# Altium footprint library 1812.PcbLib: 1 footprints
Each footprint in its own frame and in the unit in brackets; x right, y up, seen from the top. Pads: shape width x height; smd on the part's side, far side on the other; paste and mask are expansions set on the pad; w line width, h text height; cw(c..) or ccw(c..) is an arc to the next point about the centre after c.
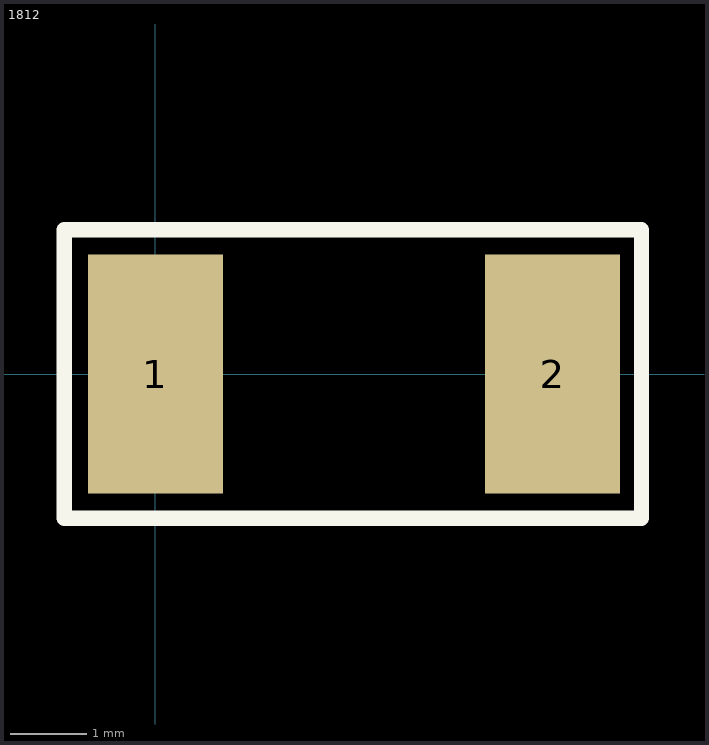
[diagram p0: the footprint, top view; thin cyan lines are the x and y axes]

## 1812 [mm]
height 0.051
pads (2):
  rect 1.78x3.15 smd: 1(0,0) 2(5.23,0)
Top Overlay:
  lines w0.2: -1.2,-1.9 -1.2,1.9 6.4,1.9 6.4,-1.9 -1.2,-1.9
3D body: height 1.34, standoff 0, extent 0.035,-1.705 4.765,1.705